# Altium schematic symbol library ZXCT1020E5TA.SchLib: 1 symbol
Pins are listed as number, name and electrical type; pins without a type are passive.

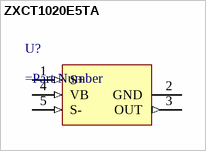
[diagram p0: symbol ZXCT1020E5TA]

## ZXCT1020E5TA
designator U?
=Description
pins: 1 S+ (in), 2 GND (power), 3 OUT (out), 4 VB (in), 5 S- (in)